# EAGLE library part SIM808 (library dawidkulpa_dev)
Simcomm GPRS + GPS module
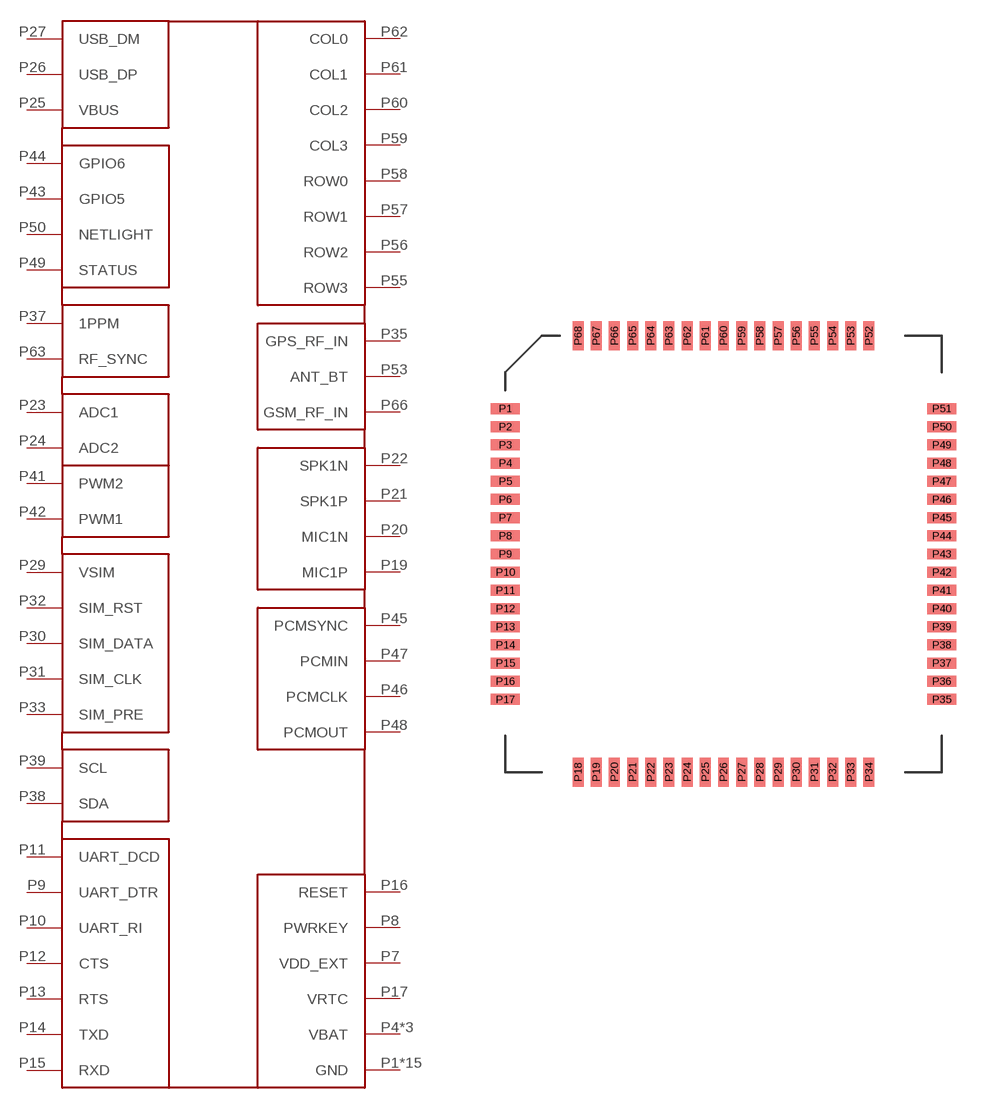
[diagram p4: symbol with the pads of SIM808; footprint SIM808]

Designator prefix -

## SIM808  [SIM808]
P1  GND
P2  GND
P3  GND
P4  VBAT
P5  VBAT
P6  VBAT
P7  VDD_EXT
P8  PWRKEY
P9  UART_DTR
P10  UART_RI
P11  UART_DCD
P12  CTS
P13  RTS
P14  TXD
P15  RXD
P16  RESET
P17  VRTC
P18  GND
P19  MIC1P
P20  MIC1N
P21  SPK1P
P22  SPK1N
P23  ADC1
P24  ADC2
P25  VBUS
P26  USB_DP
P27  USB_DM
P28  GND
P29  VSIM
P30  SIM_DATA
P31  SIM_CLK
P32  SIM_RST
P33  SIM_PRE
P34  GND
P35  GPS_RF_IN
P36  GND
P37  1PPM
P38  SDA
P39  SCL
P40  GND
P41  PWM2
P42  PWM1
P43  GPIO5
P44  GPIO6
P45  PCMSYNC
P46  PCMCLK
P47  PCMIN
P48  PCMOUT
P49  STATUS
P50  NETLIGHT
P51  GND
P52  GND
P53  ANT_BT
P54  GND
P55  ROW3
P56  ROW2
P57  ROW1
P58  ROW0
P59  COL3
P60  COL2
P61  COL1
P62  COL0
P63  RF_SYNC
P64  GND
P65  GND
P66  GSM_RF_IN
P67  GND
P68  GND

## Footprint SIM808 (pad centres in mm)
smd 1.6 x 0.6: P1 -12,8; P2 -12,7; P3 -12,6; P4 -12,5; P5 -12,4; P6 -12,3; P7 -12,2; P8 -12,1; P9 -12,0; P10 -12,-1; P11 -12,-2; P12 -12,-3; P13 -12,-4; P14 -12,-5; P15 -12,-6; P16 -12,-7; P17 -12,-8; P35 12,-8; P36 12,-7; P37 12,-6; P38 12,-5; P39 12,-4; P40 12,-3; P41 12,-2; P42 12,-1; P43 12,0; P44 12,1; P45 12,2; P46 12,3; P47 12,4; P48 12,5; P49 12,6; P50 12,7; P51 12,8
smd 0.6 x 1.6: P18 -8,-12; P19 -7,-12; P20 -6,-12; P21 -5,-12; P22 -4,-12; P23 -3,-12; P24 -2,-12; P25 -1,-12; P26 0,-12; P27 1,-12; P28 2,-12; P29 3,-12; P30 4,-12; P31 5,-12; P32 6,-12; P33 7,-12; P34 8,-12; P52 8,12; P53 7,12; P54 6,12; P55 5,12; P56 4,12; P57 3,12; P58 2,12; P59 1,12; P60 0,12; P61 -1,12; P62 -2,12; P63 -3,12; P64 -4,12; P65 -5,12; P66 -6,12; P67 -7,12; P68 -8,12